# Altium footprint library ADA4528-2ARMZ-R7.PCBLIB: 1 footprints
Each footprint in its own frame and in the unit in brackets; x right, y up, seen from the top. Pads: shape width x height; smd on the part's side, far side on the other; paste and mask are expansions set on the pad; w line width, h text height; cw(c..) or ccw(c..) is an arc to the next point about the centre after c.
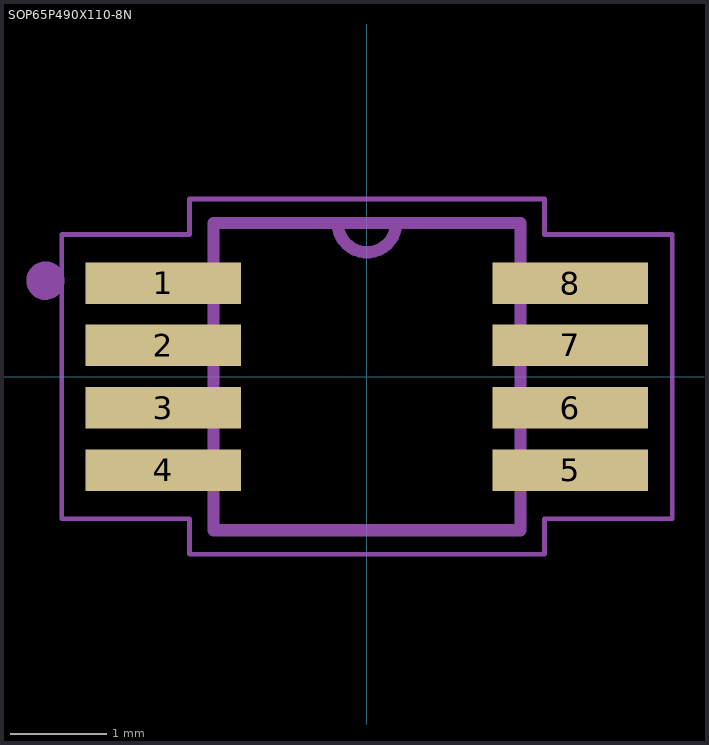
[diagram p0: the footprint, top view; thin cyan lines are the x and y axes]

## SOP65P490X110-8N [mil]
pads (8):
  rect 63.78x17 smd: 1(-83.46,38.39) 2(-83.46,12.8) 3(-83.46,-12.8) 4(-83.46,-38.39) 5(83.46,-38.39) 6(83.46,-12.8) 7(83.46,12.8) 8(83.46,38.39)
Assembly Top:
  lines w5: -12,62.99 ccw(c0,62.99) 12,62.99 ; -12,62.99 -62.99,62.99 -62.99,-62.99 62.99,-62.99 62.99,62.99 12,62.99 ; -12,62.99 12,62.99
Mechanical 22:
  circle w7.87: c-131.89,39.37 r3.94
  lines w5: -62.99,-62.99 62.99,-62.99 ; -62.99,62.99 -12,62.99 ; 62.99,62.99 12,62.99 ; -12,62.99 ccw(c0,62.99) 12,62.99 ; -12,62.99 12,62.99
Mechanical 30:
  lines w1.97: -125.2,-58.27 -125.2,58.27 -72.83,58.27 -72.83,72.83 72.83,72.83 72.83,58.27 125.2,58.27 125.2,-58.27 72.83,-58.27 72.83,-72.83 -72.83,-72.83 -72.83,-58.27 -125.2,-58.27